# Altium footprint library Passives.PcbLib: 24 footprints (part 1 of 2)
Each footprint in its own frame and in the unit in brackets; x right, y up, seen from the top. Pads: shape width x height; smd on the part's side, far side on the other; paste and mask are expansions set on the pad; w line width, h text height; cw(c..) or ccw(c..) is an arc to the next point about the centre after c.
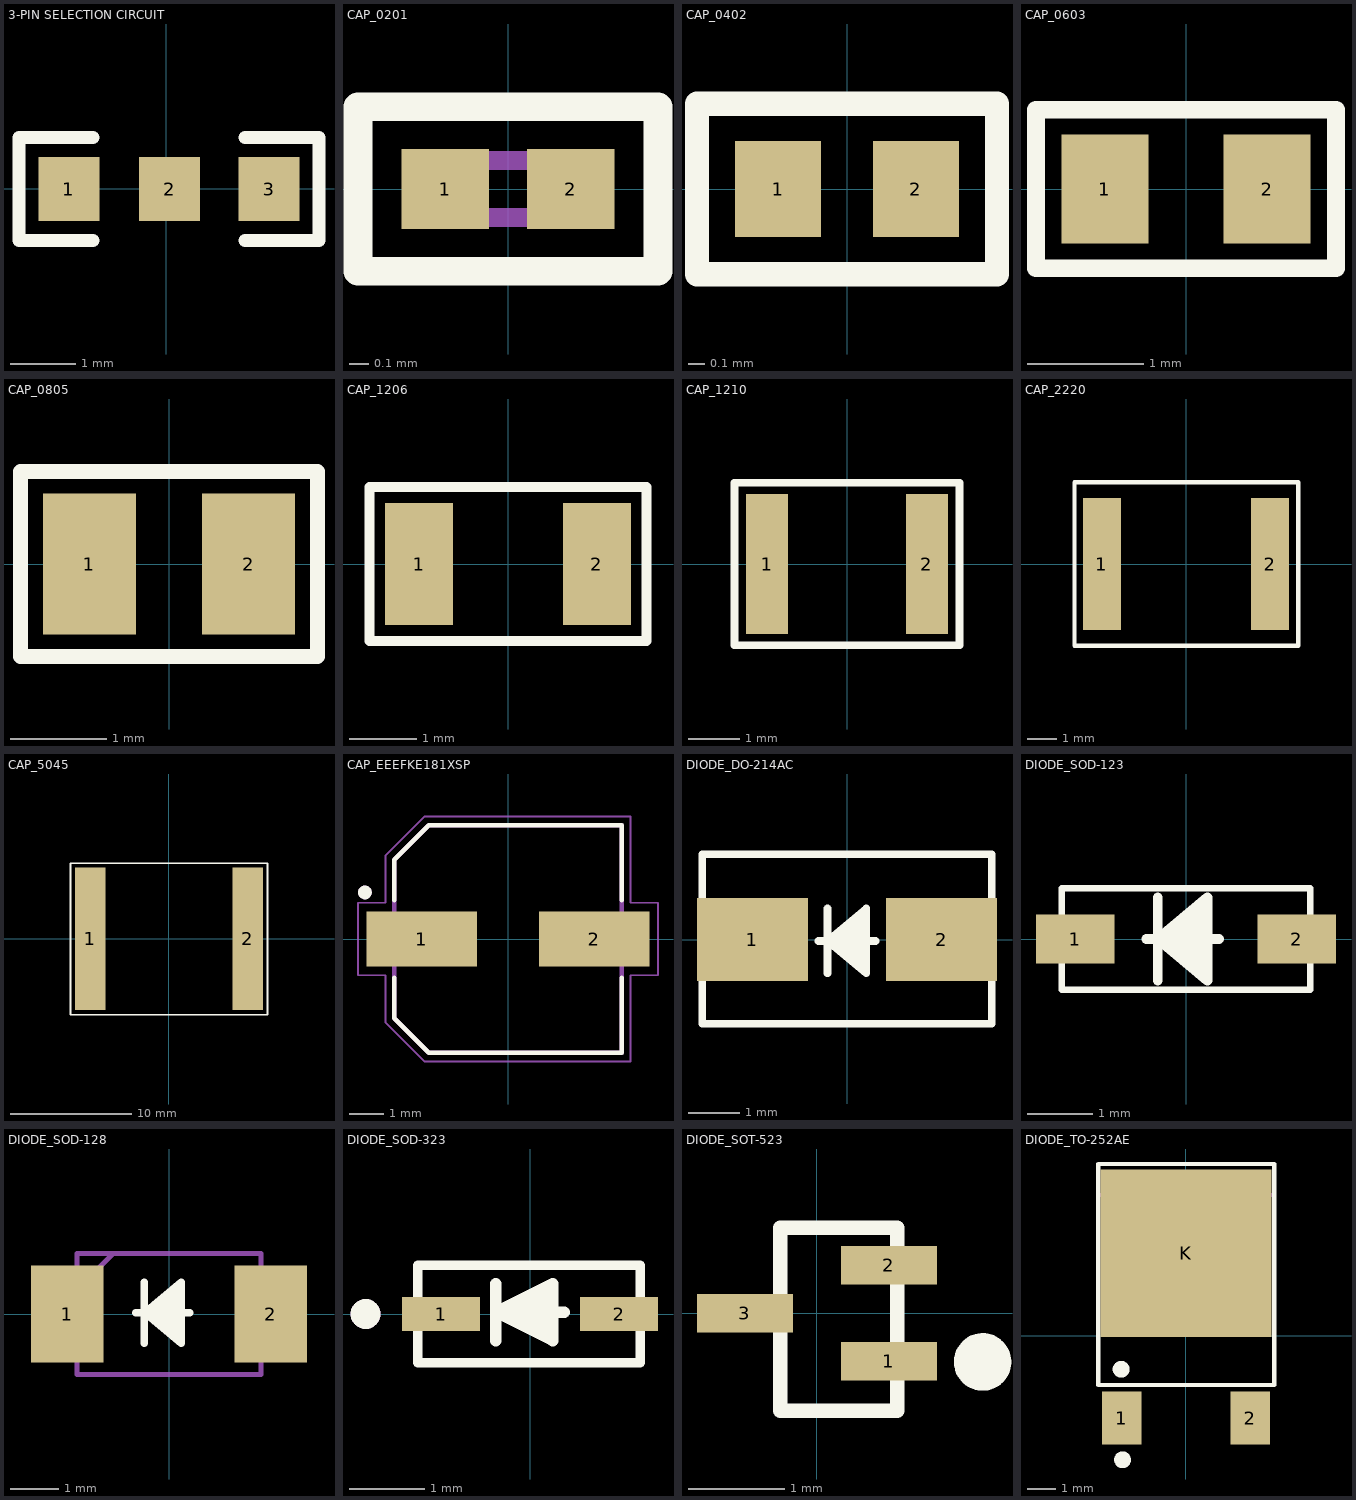
[diagram p0: the footprints below, top view; thin cyan lines are the x and y axes]

## 3-PIN SELECTION CIRCUIT [mm]
pads (3):
  rect 0.93x0.98 smd: 1(-1.493,0) 2(0.047,0) 3(1.571,0)
Top Overlay:
  lines w0.2: -1.123,-0.79 -2.258,-0.79 -2.258,0.79 -1.123,0.79 ; 1.201,-0.79 2.336,-0.79 2.336,0.79 1.201,0.79
3D body: height 0.56, standoff 0, extent -0.024,-0.4 1.676,0.4

## CAP_0201 [mm]
pads (2):
  rect 0.46x0.42 smd: 1(-0.33,0) 2(0.33,0)
Top Overlay:
  lines w0.152: -0.787,-0.432 0.787,-0.432 0.787,0.432 -0.787,0.432 -0.787,-0.432
Assembly Top:
  lines w0.1: -0.3,-0.15 -0.3,0.15 0.3,0.15 0.3,-0.15 -0.3,-0.15
3D body: height 0.33, standoff 0, extent -0.3,-0.15 0.3,0.15

## CAP_0402 [mm]
pads (2):
  rect 0.54x0.6 smd: 1(-0.432,0) 2(0.432,0)
Top Overlay:
  lines w0.152: -0.94,-0.533 0.94,-0.533 0.94,0.533 -0.94,0.533 -0.94,-0.533
3D body: height 0.25, standoff -0.25, extent -0.5,-0.28 0.5,0.27

## CAP_0603 [mm]
pads (2):
  rect 0.75x0.94 smd: 1(-0.7,0) 2(0.7,0)
Top Overlay:
  lines w0.152: -1.295,-0.686 -1.295,0.686 1.295,0.686 1.295,-0.686 -1.295,-0.686
Assembly Top:
  lines w0.1: -0.8,-0.4 -0.8,0.4 ; 0.8,-0.4 0.8,0.4
3D body: height 0.9, standoff 0, extent -0.8,-0.4 0.8,0.4

## CAP_0805 [mm]
pads (2):
  rect 0.97x1.47 smd: 1(-0.83,0) 2(0.83,0)
Top Overlay:
  lines w0.152: -1.549,-0.965 1.549,-0.965 1.549,0.965 -1.549,0.965 -1.549,-0.965
Assembly Top:
  lines w0.1: -1,-0.625 -1,0.625 ; 1,-0.625 1,0.625
3D body: height 1.45, standoff 0, extent -1,-0.625 1,0.625

## CAP_1206 [mm]
pads (2):
  rect 1.01x1.82 smd: 1(-1.32,0) 2(1.32,0)
Top Overlay:
  lines w0.152: -2.057,-1.143 2.057,-1.143 2.057,1.143 -2.057,1.143 -2.057,-1.143
Assembly Top:
  lines w0.1: -1.55,-0.8 -1.55,0.8 ; 1.55,-0.8 1.55,0.8
3D body: height 1.8, standoff 0, extent -1.55,-0.8 1.55,0.8

## CAP_1210 [mm]
pads (2):
  rect 0.82x2.72 smd: 1(-1.55,0) 2(1.55,0)
Top Overlay:
  lines w0.152: -2.184,-1.575 -2.184,1.575 2.184,1.575 2.184,-1.575 -2.184,-1.575
3D body: height 2.7, standoff 0, extent -1.6,-1.25 1.6,1.25

## CAP_2220 [mm]
pads (2):
  rect 1.3x4.5 smd mask+0: 1(-2.875,0) 2(2.875,0)
Top Overlay:
  lines w0.152: -3.81,-2.794 3.835,-2.794 3.835,2.794 -3.81,2.794 -3.81,-2.794
Top Solder:
  region: -2.225,-2.25 -3.525,-2.25 -3.525,2.25 -2.225,2.25
  region: 3.525,-2.25 2.225,-2.25 2.225,2.25 3.525,2.25
3D body: height 2.8, standoff 0, extent -2.824,-2.527 2.876,2.473

## CAP_5045 [mm]
pads (2):
  rect 2.5x11.72 smd: 1(-6.5,0) 2(6.5,0)
Top Overlay:
  lines w0.152: -8.128,-6.248 -8.128,6.223 8.128,6.223 8.128,-6.248 -8.128,-6.248
Assembly Top:
  lines w0.1: -6.35,-5.75 -6.35,5.75 ; 6.35,-5.75 6.35,5.75
3D body: height 6.42, standoff -0.16, extent -6.411,-5.797 6.309,5.842

## CAP_EEEFKE181XSP [mm]
pads (2):
  rect 3.2x1.6 smd: 1(-2.5,0) 2(2.5,0)
Top Overlay:
  circle w0.2: c-4.15,1.35 r0.1
  lines w0.127: -3.3,-1.12 -3.3,-2.3 -2.3,-3.3 3.3,-3.3 3.3,-1.12 ; -3.3,1.12 -3.3,2.3 -2.3,3.3 3.3,3.3 3.3,1.12
3D Top:
  circle w0.2: c-4.15,1.35 r0.1
  lines w0.127: -3.3,-2.3 -3.3,2.3 -2.3,3.3 3.3,3.3 3.3,-3.3 -2.3,-3.3 -3.3,-2.3
Courtyard Top:
  lines w0.05: -4.35,-1.05 -3.55,-1.05 -3.55,-2.425 -2.425,-3.55 3.55,-3.55 3.55,-1.05 4.35,-1.05 4.35,1.05 3.55,1.05 3.55,3.55 -2.425,3.55 -3.55,2.425 -3.55,1.05 -4.35,1.05 -4.35,-1.05
3D body: height 7.7, standoff 0, extent -3.65,-3.3 3.65,3.3

## DIODE_DO-214AC [mm]
pads (2):
  rect 2.18x1.63 smd: 1(-1.857,0) 2(1.857,0)
Top Overlay:
  lines w0.152: -0.559,-0.025 0.559,-0.025 ; -0.382,-0.66 -0.382,0.61 ; 0.38,-0.533 -0.382,-0.025 ; 0.38,-0.406 -0.382,-0.025 ; 0.38,-0.279 -0.382,-0.025 ; 0.38,-0.152 -0.382,-0.025 ; 0.38,0.102 -0.382,-0.025 ; 0.38,0.229 -0.382,-0.025 ; 0.38,0.356 -0.382,-0.025 ; 0.38,0.483 -0.382,-0.025 ; -0.382,-0.025 0.38,0.61 0.38,-0.66 -0.382,-0.025 ; -2.845,-1.651 2.845,-1.651 2.845,1.676 -2.845,1.676 -2.845,-1.651
3D body: height 2.35, standoff 0, extent -2.795,-1.46 2.795,1.46

## DIODE_SOD-123 [mm]
pads (2):
  rect 1.2x0.75 smd: 1(-1.7,0) 2(1.7,0)
Top Overlay:
  lines w0.1: -1.905,-0.775 1.905,-0.775 1.905,0.775 -1.905,0.775 -1.905,-0.775
  lines w0.152: -0.61,0 0.508,0 ; -0.433,-0.635 -0.433,0.635 ; 0.329,-0.508 -0.433,0 ; 0.329,-0.381 -0.433,0 ; 0.329,-0.254 -0.433,0 ; 0.329,-0.127 -0.433,0 ; 0.329,0.127 -0.433,0 ; 0.329,0.254 -0.433,0 ; 0.329,0.381 -0.433,0 ; 0.329,0.508 -0.433,0 ; -0.433,0 0.329,-0.635 0.329,0.635 -0.433,0
3D body: height 0.74, standoff -0.71, extent -1.825,-0.8 1.825,0.75

## DIODE_SOD-128 [mm]
pads (2):
  rect 1.5x2 smd: 1(-2.1,0) 2(2.1,0)
Top Overlay:
  lines w0.152: -0.686,0.025 0.432,0.025 ; -0.509,-0.61 -0.509,0.66 ; 0.253,-0.483 -0.509,0.025 ; 0.253,-0.356 -0.509,0.025 ; 0.253,-0.229 -0.509,0.025 ; 0.253,-0.102 -0.509,0.025 ; 0.253,0.152 -0.509,0.025 ; 0.253,0.279 -0.509,0.025 ; 0.253,0.406 -0.509,0.025 ; 0.253,0.533 -0.509,0.025 ; -0.509,0.025 0.253,-0.61 0.253,0.66 -0.509,0.025
Assembly Top:
  lines w0.1: -1.9,0.5 -1.15,1.25 ; -1.9,-1.25 1.9,-1.25 1.9,1.25 -1.9,1.25 -1.9,-1.25
3D body: height 1.03, standoff -0.04, extent -2.426,-1.295 2.274,1.305

## DIODE_SOD-323 [mm]
pads (2):
  rect 1.04x0.46 smd: 1(-1.19,0) 2(1.19,0)
Top Overlay:
  circle w0.2: c-2.2,0 r0.1
  lines w0.127: -1.499,-0.65 1.473,-0.65 1.473,0.65 -1.499,0.65 -1.499,-0.65
  lines w0.152: -0.458,-0.356 -0.458,0.406 ; 0.304,-0.356 -0.458,0.025 ; 0.304,-0.229 -0.458,0.025 ; 0.304,-0.102 -0.458,0.025 ; 0.304,0.152 -0.458,0.025 ; 0.304,0.279 -0.458,0.025 ; 0.304,0.406 -0.458,0.025 ; 0.305,-0.356 0.305,0.406 ; 0.457,0.025 -0.458,0.025
3D Top:
  circle w0.2: c-2.2,0 r0.1
3D body: height 1.09, standoff 0, extent -1.346,-0.698 1.346,0.698

## DIODE_SOT-523 [mm]
pads (3):
  rect 1x0.4 smd: 1(0.75,-0.5) 2(0.75,0.5) 3(-0.75,0)
Top Overlay:
  circle w0.3: c1.727,-0.508 r0.15
  lines w0.152: 0.813,-1.016 -0.381,-1.016 -0.381,0.889 0.838,0.889 0.838,-1.016
3D body: height 0.9, standoff 0, extent -0.8,-0.825 0.8,0.775

## DIODE_TO-252AE [mm]
pads (3):
  rect 1.4x1.9 smd: 1(-2.29,-2.932) 2(2.29,-2.932)
  rect 6.1x5.97 smd paste-4: K(0,2.933)
Top Overlay:
  circle w0.3: c-2.261,-4.42 r0.15
  circle w0.3: c-2.311,-1.194 r0.15
  lines w0.152: -3.124,-1.753 -3.124,6.121 3.15,6.121 3.15,-1.753 -3.124,-1.753
Top Paste:
  region: 2.675,5.363 2.675,3.483 1.385,3.483 1.385,5.363
  region: 2.675,2.383 2.675,0.503 1.385,0.503 1.385,2.383
  region: -1.385,5.363 -1.385,3.483 -2.675,3.483 -2.675,5.363
  region: -1.385,2.383 -1.385,0.503 -2.675,0.503 -2.675,2.383
  region: 0.645,5.363 0.645,3.483 -0.645,3.483 -0.645,5.363
  region: 0.645,2.383 0.645,0.503 -0.645,0.503 -0.645,2.383
3D Top:
  lines w0.127: -3.1,5.018 3.1,5.018
3D body: height 1, standoff -0.35, extent -3.1,-3.3 3.1,5.699